# Altium integrated library EVQ-PUL02K.IntLib: 1 symbol
Pins are listed as number, name and electrical type; pins without a type are passive.

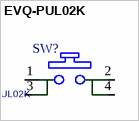
[diagram p0: symbol EVQ-PUL02K]

## EVQ-PUL02K
designator SW?
PDF: http://industrial.panasonic.com/www-data/pdf/ATV0000/ATV0000CE5.pdf; BUY_LINK: http://www.digikey.com/product-detail/en/EVQ-PUL02K/P10853SCT-ND/286354; ID: EVQ-PUL02K; PRICE: 0.75000
footprint EVQ-PUL02K
pins: 1, 2, 3, 4